# Altium footprint library JST_S3B-PH-K-S(LF)(SN).PcbLib: 1 footprints
Each footprint in its own frame and in the unit in brackets; x right, y up, seen from the top. Pads: shape width x height; smd on the part's side, far side on the other; paste and mask are expansions set on the pad; w line width, h text height; cw(c..) or ccw(c..) is an arc to the next point about the centre after c.
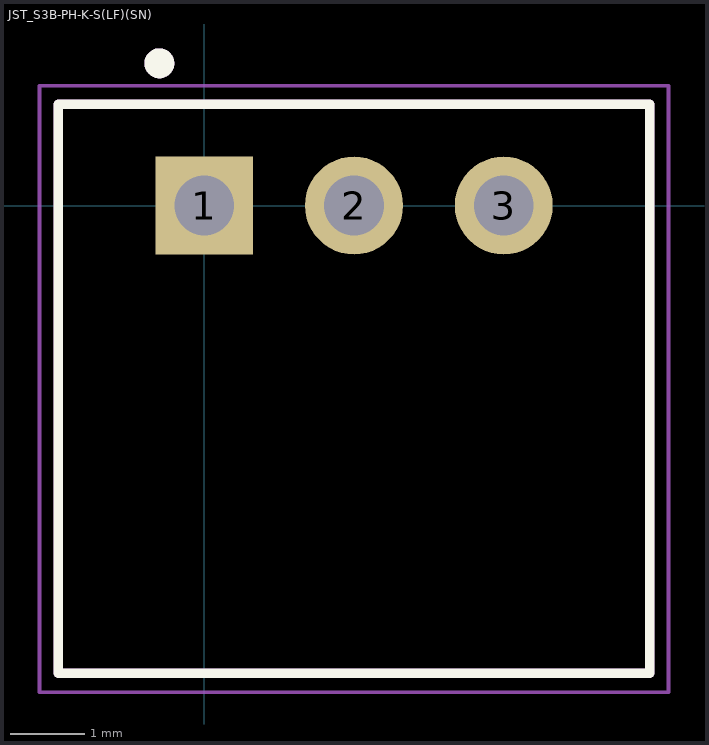
[diagram p0: the footprint, top view; thin cyan lines are the x and y axes]

## JST_S3B-PH-K-S(LF)(SN) [mm]
pads (3):
  rect 1.308x1.308 hole 0.8: 1(0,0)
  round 1.308 hole 0.8: 2(2,0) 3(4,0)
Top Overlay:
  circle w0.2: c-0.6,1.9 r0.1
  lines w0.127: -1.95,-6.25 -1.95,1.35 5.95,1.35 5.95,-6.25 -1.95,-6.25
Mechanical 13:
  circle w0.2: c-0.6,1.9 r0.1
  lines w0.127: -1.95,-6.25 -1.95,1.35 5.95,1.35 5.95,-6.25 -1.95,-6.25
Mechanical 15:
  lines w0.05: -2.2,-6.5 6.2,-6.5 6.2,1.6 -2.2,1.6 -2.2,-6.5